# Altium footprint library resistor.PCBLIB: 427 footprints (part 15 of 27)
Each footprint in its own frame and in the unit in brackets; x right, y up, seen from the top. Pads: shape width x height; smd on the part's side, far side on the other; paste and mask are expansions set on the pad; w line width, h text height; cw(c..) or ccw(c..) is an arc to the next point about the centre after c.
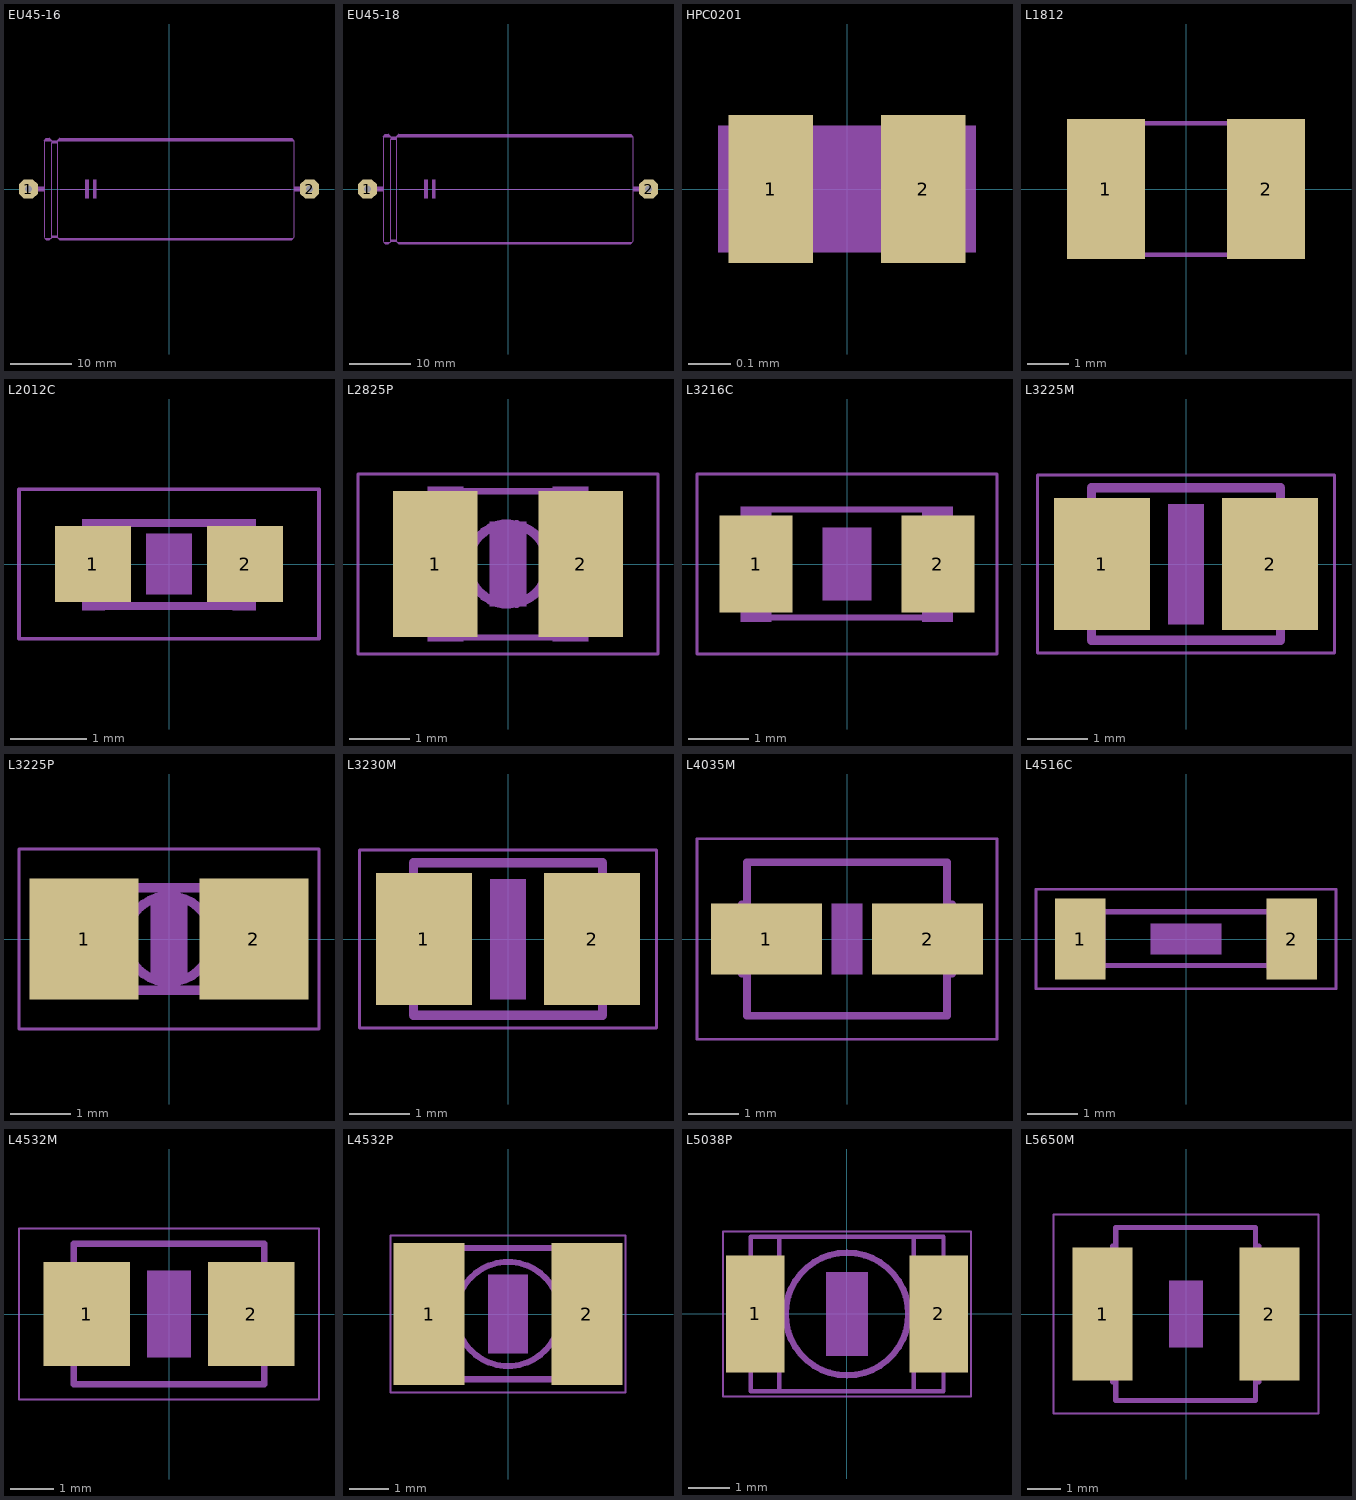
[diagram p14: the footprints below, top view; thin cyan lines are the x and y axes]

## EU45-16 [mil]
pads (2):
  oct 120.06x120.06 / inner oct 60x60 / far side oct 120.06x120.06 hole 44: 1(-900,0) 2(900,0)
Mechanical 8:
  lines w30: -900,0 -835,0 ; 835,0 900,0
Mechanical 22:
  region: -485,-60 -485,60 -465,60 -465,-60
  region: -535,-60 -535,60 -515,60 -515,-60
  region: 800,-15 800,15 835,15 835,-15
  region: -835,-15 -835,15 -800,15 -800,-15
  lines w6: -695,0 -525,0 ; -470,0 780,0 ; -800,310 -800,-310 -795,-315 ; -800,310 -785,325 -765,325 -750,310 ; -800,310 -750,310 ; -795,-315 -755,-315 ; -795,-315 -785,-325 -765,-325 -755,-315 ; -755,-315 -750,-310 ; -750,-310 -750,-300 ; -750,-310 -715,-310 ; -750,-300 -715,-300 ; -750,-300 -750,295 ; -750,295 -750,310 ; -750,295 -715,295 ; -750,310 -715,310 ; -715,-310 -710,-315 ; -715,-310 -715,-300 ; -715,-300 -715,295 ; -715,295 -715,310 ; -715,310 -700,325 785,325 800,310 ; -715,310 800,310 ; -710,-315 -700,-325 785,-325 795,-315 ; -710,-315 795,-315 ; 795,-315 800,-310 800,310
  lines w10: -785,-320 -765,-320 ; -745,-305 -720,-305 ; -700,-320 785,-320
  lines w12: -790,315 -760,315 ; -785,320 -765,320 ; -745,300 -720,300 ; -745,305 -720,305 ; -705,315 790,315 ; -700,320 785,320

## EU45-18 [mil]
pads (2):
  oct 120.06x120.06 / inner oct 60x60 / far side oct 120.06x120.06 hole 44: 1(-900,0) 2(900,0)
Mechanical 8:
  lines w30: -900,0 -835,0 ; 835,0 900,0
Mechanical 22:
  region: -485,-60 -485,60 -465,60 -465,-60
  region: -535,-60 -535,60 -515,60 -515,-60
  region: 800,-15 800,15 835,15 835,-15
  region: -835,-15 -835,15 -800,15 -800,-15
  lines w6: -695,0 -525,0 ; -470,0 780,0 ; -800,335 -800,-335 -795,-340 ; -800,335 -785,350 -765,350 -750,335 ; -800,335 -750,335 ; -795,-340 -755,-340 ; -795,-340 -785,-350 -765,-350 -755,-340 ; -755,-340 -750,-335 ; -750,-335 -750,-325 ; -750,-335 -715,-335 ; -750,-325 -715,-325 ; -750,-325 -750,320 ; -750,320 -750,335 ; -750,320 -715,320 ; -750,335 -715,335 ; -715,-335 -710,-340 ; -715,-335 -715,-325 ; -715,-325 -715,320 ; -715,320 -715,335 ; -715,335 -700,350 785,350 800,335 ; -715,335 800,335 ; -710,-340 -700,-350 785,-350 795,-340 ; -710,-340 795,-340 ; 795,-340 800,-335 800,335
  lines w10: -785,-345 -765,-345 ; -745,-330 -720,-330 ; -700,-345 785,-345
  lines w12: -790,340 -760,340 ; -785,345 -765,345 ; -745,325 -720,325 ; -745,330 -720,330 ; -705,340 790,340 ; -700,345 785,345

## HPC0201 [mm]
pads (2):
  rect 0.2x0.35 smd: 1(-0.18,0) 2(0.18,0)
Mechanical 8:
  region: -0.305,-0.15 -0.305,0.15 0.305,0.15 0.305,-0.15

## L1812 [mil]
pads (2):
  rect 74.8x133.86 smd: 1(-76.77,0) 2(76.77,0)
Mechanical 8:
  region: -94,-65 -94,64.92 -56.6,64.92 -56.6,-65
  region: 57,-65 57,64.92 94.4,64.92 94.4,-65
  lines w4: -58,63 58,63 ; -57,-63 58,-63

## L2012C [mm]
pads (2):
  rect 1x1 smd: 1(-1,0) 2(1,0)
Mechanical 8:
  region: -1.143,-0.61 -1.143,0.59 -0.843,0.59 -0.843,-0.61
  region: 0.838,-0.61 0.838,0.59 1.138,0.59 1.138,-0.61
  lines w0.102: -0.864,-0.553 0.864,-0.553 ; -0.864,0.54 0.864,0.54
Mechanical 26:
  region: -0.3,-0.4 -0.3,0.4 0.3,0.4 0.3,-0.4
Mechanical 30:
  lines w0.051: -1.973,-0.983 1.973,-0.983 1.973,0.983 -1.973,0.983 -1.973,-0.983

## L2825P [mil]
pads (2):
  rect 55.12x94.49 smd: 1(-47.24,0) 2(47.24,0)
Mechanical 8:
  circle w6: c0,0 r26
  region: 29,-50 29,50 52,50 52,-50
  region: -52,-50 -52,50 -29,50 -29,-50
  lines w4: -52.76,-37.99 -52.76,37.99 ; -30,-47.76 30,-47.76 ; -30,47.24 30,47.24 ; 52.76,-37.99 52.76,37.99
Mechanical 26:
  region: -11.81,-27.56 -11.81,27.56 11.81,27.56 11.81,-27.56
Mechanical 30:
  lines w2: -97.36,-58.39 97.36,-58.39 97.36,58.39 -97.36,58.39 -97.36,-58.39

## L3216C [mil]
pads (2):
  rect 47.24x62.99 smd: 1(-59.06,0) 2(59.06,0)
Mechanical 8:
  region: -69,-37.5 -69,37.3 -49.31,37.3 -49.31,-37.5
  region: 49,-37.5 49,37.3 68.69,37.3 68.69,-37.5
  lines w4: -50,-34.76 50,-34.76 ; -50,35.28 50,35.28
Mechanical 26:
  region: -15.75,-23.62 -15.75,23.62 15.75,23.62 15.75,-23.62
Mechanical 30:
  lines w2: -97.36,-58.39 97.36,-58.39 97.36,58.39 -97.36,58.39 -97.36,-58.39

## L3225M [mil]
pads (2):
  rect 62.99x86.61 smd: 1(-55.12,0) 2(55.12,0)
Mechanical 8:
  lines w6: -65,-37.01 -65,37.01 ; 65,-37.01 65,37.01 ; -62.01,-50 62.01,-50 62.01,50 -62.01,50 -62.01,-50
Mechanical 26:
  region: -11.81,-39.37 -11.81,39.37 11.81,39.37 11.81,-39.37
Mechanical 30:
  lines w2: -97.36,-58.39 97.36,-58.39 97.36,58.39 -97.36,58.39 -97.36,-58.39

## L3225P [mm]
pads (2):
  rect 1.8x2 smd: 1(-1.4,0) 2(1.4,0)
Mechanical 8:
  circle w0.152: c0,0 r0.712
  lines w0.152: -1.676,-0.845 1.676,-0.845 ; -1.676,-0.838 -1.676,0.838 ; -1.676,0.845 1.676,0.845 ; -1.168,-0.838 -1.168,0.838 ; 1.168,-0.838 1.168,0.838 ; 1.676,-0.838 1.676,0.838
Mechanical 26:
  region: -0.3,-0.7 -0.3,0.7 0.3,0.7 0.3,-0.7
Mechanical 30:
  lines w0.051: -2.473,-1.483 2.473,-1.483 2.473,1.483 -2.473,1.483 -2.473,-1.483

## L3230M [mil]
pads (2):
  rect 62.99x86.61 smd: 1(-55.12,0) 2(55.12,0)
Mechanical 8:
  lines w6: -65,-37.01 -65,37.01 ; 65,-37.01 65,37.01 ; -62.01,-50 62.01,-50 62.01,50 -62.01,50 -62.01,-50
Mechanical 26:
  region: -11.81,-39.37 -11.81,39.37 11.81,39.37 11.81,-39.37
Mechanical 30:
  lines w2: -97.36,-58.39 97.36,-58.39 97.36,58.39 -97.36,58.39 -97.36,-58.39

## L4035M [mil]
pads (2):
  rect 86.61x55.12 smd: 1(-62.99,0) 2(62.99,0)
Mechanical 8:
  lines w6: -82.01,-27.01 -82.01,27.01 ; 82.01,-27.01 82.01,27.01 ; -77.99,-60 -77.99,60 77.99,60 77.99,-60 -77.99,-60
Mechanical 26:
  region: -11.81,-27.56 -11.81,27.56 11.81,27.56 11.81,-27.56
Mechanical 30:
  lines w2: -117.05,-78.07 117.05,-78.07 117.05,78.07 -117.05,78.07 -117.05,-78.07

## L4516C [mm]
pads (2):
  rect 1x1.6 smd: 1(-2.1,0) 2(2.1,0)
Mechanical 8:
  region: -2.4,-0.597 -2.4,0.603 -1.6,0.603 -1.6,-0.597
  region: 1.6,-0.603 1.6,0.597 2.4,0.597 2.4,-0.603
  lines w0.102: -1.626,-0.527 1.626,-0.527 ; -1.626,0.54 1.626,0.54
Mechanical 26:
  region: -0.7,-0.3 -0.7,0.3 0.7,0.3 0.7,-0.3
Mechanical 30:
  lines w0.051: -2.973,-0.983 2.973,-0.983 2.973,0.983 -2.973,0.983 -2.973,-0.983

## L4532M [mm]
pads (2):
  rect 2x2.4 smd: 1(-1.9,0) 2(1.9,0)
Mechanical 8:
  lines w0.152: -2.337,-1.041 -2.337,1.041 ; 2.337,-1.041 2.337,1.041 ; -2.21,-1.626 2.21,-1.626 2.21,1.626 -2.21,1.626 -2.21,-1.626
Mechanical 26:
  region: -0.5,-1 -0.5,1 0.5,1 0.5,-1
Mechanical 30:
  lines w0.051: -3.473,-1.983 3.473,-1.983 3.473,1.983 -3.473,1.983 -3.473,-1.983

## L4532P [mm]
pads (2):
  rect 1.8x3.6 smd: 1(-2,0) 2(2,0)
Mechanical 8:
  circle w0.152: c0,0 r1.321
  lines w0.152: -2.311,-1.653 2.311,-1.653 ; -2.311,-1.626 -2.311,1.626 ; -2.311,1.675 2.311,1.675 2.311,-1.626 ; -1.448,-1.626 -1.448,1.651 ; 1.448,-1.626 1.448,1.626
Mechanical 26:
  region: -0.5,-1 -0.5,1 0.5,1 0.5,-1
Mechanical 30:
  lines w0.051: -2.973,-1.983 2.973,-1.983 2.973,1.983 -2.973,1.983 -2.973,-1.983

## L5038P [mil]
pads (2):
  rect 55.12x110.24 smd: 1(-86.61,0) 2(86.61,0)
Mechanical 8:
  circle w6: c0,0 r58
  lines w4: -93.94,-50 -93.94,50 ; -90.94,-72.99 -90.94,72.99 ; -90,-73.07 90.98,-73.07 ; -90,72.95 90.98,72.95 ; -63.94,-72.99 -63.94,72.99 ; 63.07,-72.99 63.07,72.99 ; 91.06,-72.99 91.06,72.99 ; 94.06,-50 94.06,50
Mechanical 26:
  region: -19.69,-39.37 -19.69,39.37 19.69,39.37 19.69,-39.37
Mechanical 30:
  lines w2: -117.05,-78.07 117.05,-78.07 117.05,78.07 -117.05,78.07 -117.05,-78.07

## L5650M [mm]
pads (2):
  rect 1.8x4 smd: 1(-2.5,0) 2(2.5,0)
Mechanical 8:
  lines w0.152: -2.21,-2.032 -2.21,2.032 ; 2.184,-2.032 2.184,2.032 ; -2.108,-2.591 2.083,-2.591 2.083,2.591 -2.108,2.591 -2.108,-2.591
Mechanical 26:
  region: -0.5,-1 -0.5,1 0.5,1 0.5,-1
Mechanical 30:
  lines w0.051: -3.973,-2.983 3.973,-2.983 3.973,2.983 -3.973,2.983 -3.973,-2.983